# EAGLE library part 418217170910 (library EAGLE-TACT_SWITCHES-rev17c)
WS-RA 2.54 mm right angled compact THT Dip Switch with flat actuator, 10 Pole
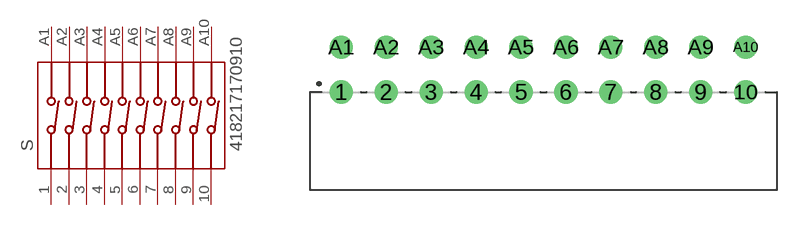
[diagram p58: symbol with the pads of 418217170910; footprint 418217170910]

Designator prefix S

## 418217170910  [418217170910]
1  1  pas
2  2  pas
3  3  pas
4  4  pas
5  5  pas
6  6  pas
7  7  pas
8  8  pas
9  9  pas
10  10  pas
A1  A1  pas
A2  A2  pas
A3  A3  pas
A4  A4  pas
A5  A5  pas
A6  A6  pas
A7  A7  pas
A8  A8  pas
A9  A9  pas
A10  A10  pas

## Footprint 418217170910 (pad centres in mm)
WS-RA 2.54 mm right angled compact THT Dip Switch with flat actuator, 10 Pole
drill 0.8: 1 -11.43,-1.27; 2 -8.89,-1.27; 3 -6.35,-1.27; 4 -3.81,-1.27; 5 -1.27,-1.27; 6 1.27,-1.27; 7 3.81,-1.27; 8 6.35,-1.27; 9 8.89,-1.27; 10 11.43,-1.27; A1 -11.43,1.27; A2 -8.89,1.27; A3 -6.35,1.27; A4 -3.81,1.27; A5 -1.27,1.27; A6 1.27,1.27; A7 3.81,1.27; A8 6.35,1.27; A9 8.89,1.27; A10 11.43,1.27